# EAGLE library part FPC-58WAY (library pimoroni-fpc)
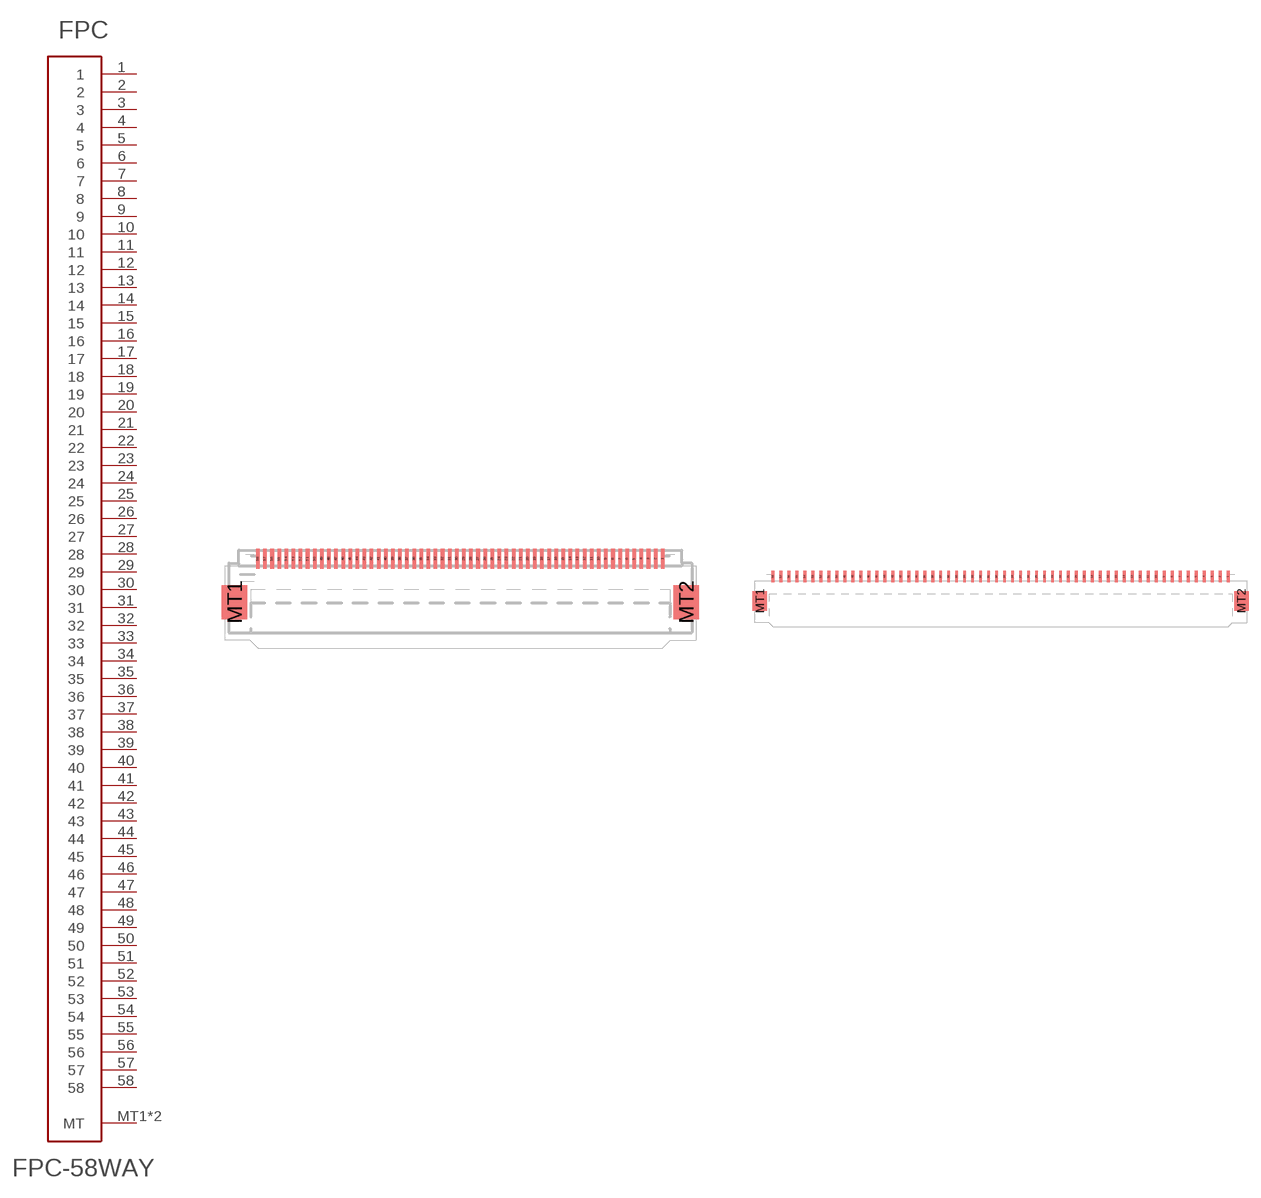
[diagram p53: symbol with the pads of FPC-0.5MM-58WAY; footprints FPC-0.5MM-58WAY, FPC-1.0MM-58WAY]

Designator prefix FPC

## FPC-58WAY0.5  [FPC-0.5MM-58WAY]
1  1
2  2
3  3
4  4
5  5
6  6
7  7
8  8
9  9
10  10
11  11
12  12
13  13
14  14
15  15
16  16
17  17
18  18
19  19
20  20
21  21
22  22
23  23
24  24
25  25
26  26
27  27
28  28
29  29
30  30
31  31
32  32
33  33
34  34
35  35
36  36
37  37
38  38
39  39
40  40
41  41
42  42
43  43
44  44
45  45
46  46
47  47
48  48
49  49
50  50
51  51
52  52
53  53
54  54
55  55
56  56
57  57
58  58
MT1  MT
MT2  MT

## FPC-58WAY1.0  [FPC-1.0MM-58WAY]
Pads as for FPC-0.5MM-58WAY

## Footprint FPC-0.5MM-58WAY (pad centres in mm)
smd 0.25 x 1.4: 1 14.25,0.7; 2 13.75,0.7; 3 13.25,0.7; 4 12.75,0.7; 5 12.25,0.7; 6 11.75,0.7; 7 11.25,0.7; 8 10.75,0.7; 9 10.25,0.7; 10 9.75,0.7; 11 9.25,0.7; 12 8.75,0.7; 13 8.25,0.7; 14 7.75,0.7; 15 7.25,0.7; 16 6.75,0.7; 17 6.25,0.7; 18 5.75,0.7; 19 5.25,0.7; 20 4.75,0.7; 21 4.25,0.7; 22 3.75,0.7; 23 3.25,0.7; 24 2.75,0.7; 25 2.25,0.7; 26 1.75,0.7; 27 1.25,0.7; 28 0.75,0.7; 29 0.25,0.7; 30 -0.25,0.7; 31 -0.75,0.7; 32 -1.25,0.7; 33 -1.75,0.7; 34 -2.25,0.7; 35 -2.75,0.7; 36 -3.25,0.7; 37 -3.75,0.7; 38 -4.25,0.7; 39 -4.75,0.7; 40 -5.25,0.7; 41 -5.75,0.7; 42 -6.25,0.7; 43 -6.75,0.7; 44 -7.25,0.7; 45 -7.75,0.7; 46 -8.25,0.7; 47 -8.75,0.7; 48 -9.25,0.7; 49 -9.75,0.7; 50 -10.25,0.7; 51 -10.75,0.7; 52 -11.25,0.7; 53 -11.75,0.7; 54 -12.25,0.7; 55 -12.75,0.7; 56 -13.25,0.7; 57 -13.75,0.7; 58 -14.25,0.7
smd 1.8 x 2.4: MT1 -15.9,-2.35; MT2 15.9,-2.35

## Footprint FPC-1.0MM-58WAY (pad centres in mm)
smd 0.35 x 1.4: 1 28.5,0.7; 2 27.5,0.7; 3 26.5,0.7; 4 25.5,0.7; 5 24.5,0.7; 6 23.5,0.7; 7 22.5,0.7; 8 21.5,0.7; 9 20.5,0.7; 10 19.5,0.7; 11 18.5,0.7; 12 17.5,0.7; 13 16.5,0.7; 14 15.5,0.7; 15 14.5,0.7; 16 13.5,0.7; 17 12.5,0.7; 18 11.5,0.7; 19 10.5,0.7; 20 9.5,0.7; 21 8.5,0.7; 22 7.5,0.7; 23 6.5,0.7; 24 5.5,0.7; 25 4.5,0.7; 26 3.5,0.7; 27 2.5,0.7; 28 1.5,0.7; 29 0.5,0.7; 30 -0.5,0.7; 31 -1.5,0.7; 32 -2.5,0.7; 33 -3.5,0.7; 34 -4.5,0.7; 35 -5.5,0.7; 36 -6.5,0.7; 37 -7.5,0.7; 38 -8.5,0.7; 39 -9.5,0.7; 40 -10.5,0.7; 41 -11.5,0.7; 42 -12.5,0.7; 43 -13.5,0.7; 44 -14.5,0.7; 45 -15.5,0.7; 46 -16.5,0.7; 47 -17.5,0.7; 48 -18.5,0.7; 49 -19.5,0.7; 50 -20.5,0.7; 51 -21.5,0.7; 52 -22.5,0.7; 53 -23.5,0.7; 54 -24.5,0.7; 55 -25.5,0.7; 56 -26.5,0.7; 57 -27.5,0.7; 58 -28.5,0.7
smd 1.8 x 2.4: MT1 -30.15,-2.35; MT2 30.15,-2.35